# Altium footprint library Connectors.PcbLib: 20 footprints (part 2 of 2)
Each footprint in its own frame and in the unit in brackets; x right, y up, seen from the top. Pads: shape width x height; smd on the part's side, far side on the other; paste and mask are expansions set on the pad; w line width, h text height; cw(c..) or ccw(c..) is an arc to the next point about the centre after c.
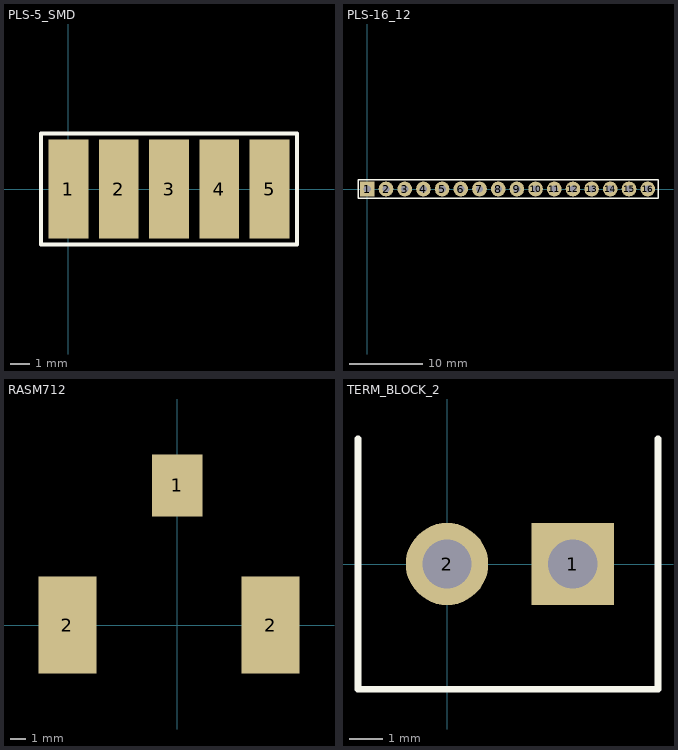
[diagram p1: the footprints below, top view; thin cyan lines are the x and y axes]

## PLS-5_SMD [mm] "Connector; Header; 5 Position"
pads (5):
  rect 2x5 smd: 1(0,0) 2(2.54,0) 3(5.08,0) 4(7.62,0) 5(10.16,0)
Top Overlay:
  lines w0.2: -1.397,-2.794 -1.397,2.794 11.557,2.794 11.557,-2.794 -1.397,-2.794
3D body "PLS-5R.step": height 9.51, standoff 0.07, extent -1.27,-2.286 11.43,2.794

## PLS-16_12 [mm] "Connector type 12; Header; 16 Position"
height 14.8
pads (16):
  rect 2x2 hole 1: 1(0,0)
  round 2 hole 1: 2(2.54,0) 3(5.08,0) 4(7.62,0) 5(10.16,0) 6(12.7,0) 7(15.24,0) 8(17.78,0) 9(20.32,0) 10(22.86,0) 11(25.4,0) 12(27.94,0) 13(30.48,0) 14(33.02,0) 15(35.56,0) 16(38.1,0)
Top Overlay:
  lines w0.2: -1.27,-1.27 -1.27,1.27 39.5,1.27 39.5,-1.27 -1.27,-1.27
3D body "pls-16_12.STEP": height 14.81, standoff -2.99, extent -1.27,-1.27 39.37,1.27

## RASM712 [mm] "Power jack 2.5mm SMD mounting"
height 11
pads (3):
  rect 3.3x4.06 smd: 1(0,9.14)
  rect 3.81x6.35 smd: 2(-7.19,0) 2(6.1,0)
3D body "RASM722.step": height 11, standoff 0, extent -8.15,-6.3 7.05,10.7

## TERM_BLOCK_2 [mm] "Terminal block connector; 2 position"
height 8.6
pads (2):
  rect 2.5x2.5 hole 1.5: 1(3.81,0)
  round 2.5 hole 1.5: 2(0,0)
Top Overlay:
  lines w0.2: -2.7,3.8 -2.7,-3.8 6.4,-3.8 6.4,3.8
3D body "User Library-KLS2-340-3_81-1.step": height 8.4, standoff -3.27, extent -2.405,-3.5 6.215,3.5